# Altium integrated library Micron Memory Mobile LPDRAM.IntLib: 146 symbols (part 1 of 41)
Pins are listed as number, name and electrical type; pins without a type are passive.

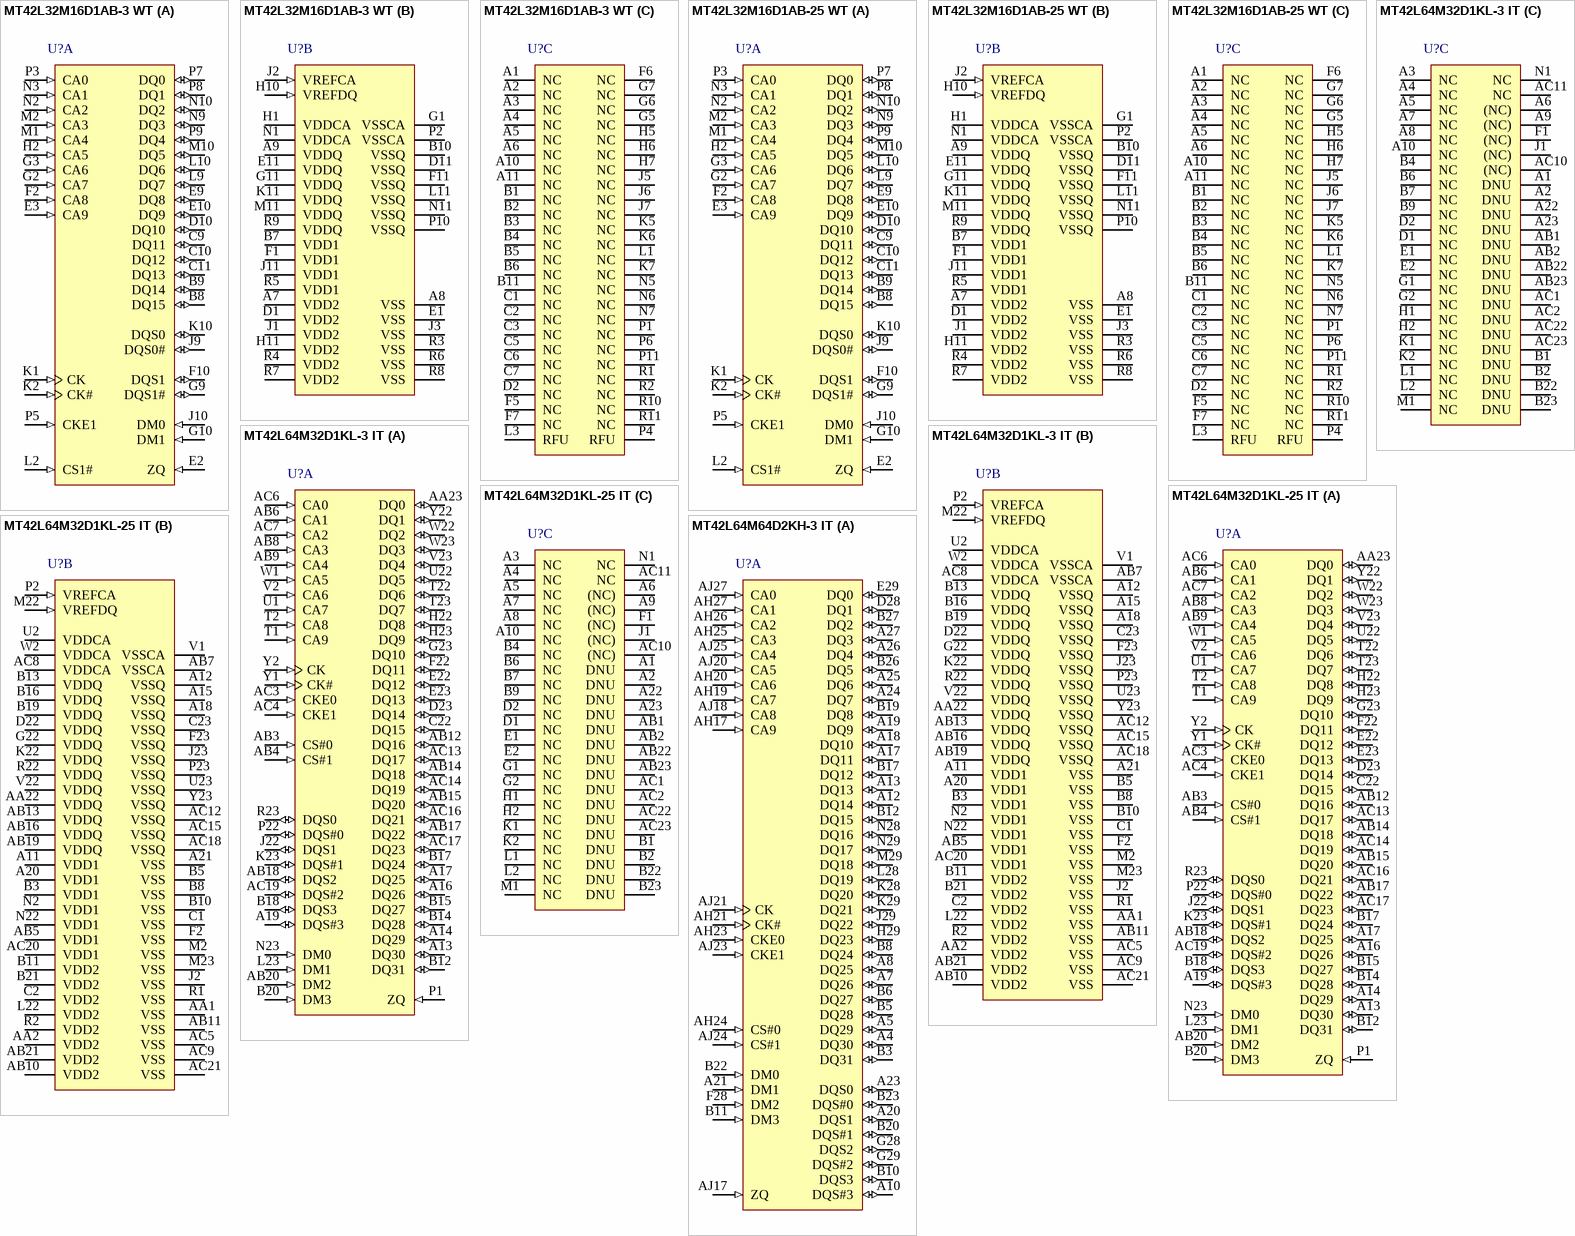
[diagram p0: symbols MT42L32M16D1AB-3 WT to MT42L64M64D2KH-3 IT]

## MT42L32M16D1AB-3 WT
designator U?
512Mb LPDDR2-667 SDRAM, 32Mb x 16, 3ns, 1.2V, -25 to 85 degC, 121-Ball VFBGA, Pb-Free; Manufacturer: Micron; PartNumber: MT42L32M16D1AB-3 WT; Clock Rate: 333 MHz; Op. Temp.: -25C to +85C; DatasheetVersion: Rev. H; PackageVersion: Rev.H; PackageReference: MICT-AB-121; PackageDescription: 121-Ball Fine-Pitch Ball Grid Array, 8 x 6.5 mm, Pitch 0.5 mm; Cycle Time: 3ns; Data Rate: LPDDR2-667; Density: 512Mb; Depth: 32Mb; Package: VFBGA; Part Status: Sampling; Pin Count: 121-ball; RoHS: Yes; Technology: Mobile LPDDR2; Voltage: 1.2V; Width: x16; Mounting Technology: Surface Mount; ComponentLink1Description: Manufacturer URL; ComponentLink1URL: http://www.micron.com/; ComponentLink2Description: Datasheet; ComponentLink2URL: http://www.micron.com/~/media/Documents/Products/Data%20Sheet/DRAM/Mobile%20DRAM/Low-Power%20DRAM/LPDDR2/U67M_512Mb_mobile_lpddr2_s4_sdram.pdf; ComponentLink3Description: Package Specification; ComponentLink3URL: http://www.micron.com/~/media/Documents/Products/Data%20Sheet/DRAM/Mobile%20DRAM/Low-Power%20DRAM/LPDDR2/U67M_512Mb_mobile_lpddr2_s4_sdram.pdf
footprint MICT-AB-121 (BGA, 121-Balls, Body 8x6.5mm, Pitch 0.5mm)
part A pins: B8 DQ15 (io) "Data input/output: Bidirectional data bus.", B9 DQ14 (io) "Data input/output: Bidirectional data bus.", C9 DQ11 (io) "Data input/output: Bidirectional data bus.", C10 DQ12 (io) "Data input/output: Bidirectional data bus.", C11 DQ13 (io) "Data input/output: Bidirectional data bus.", D10 DQ10 (io) "Data input/output: Bidirectional data bus.", E2 ZQ (in) "External impedance (240 ohm): This signal is used to calibrate the device output impedance.", E3 CA9 (in) "Command/address inputs: Provide the command and address inputs according to the command truth table.", E9 DQ8 (io) "Data input/output: Bidirectional data bus.", E10 DQ9 (io) "Data input/output: Bidirectional data bus.", F2 CA8 (in) "Command/address inputs: Provide the command and address inputs according to the command truth table.", F10 DQS1 (io) "Data strobe: The data strobe is bidirectional (used for read and write data) and complementary (DQS and DQS#). It is edge-aligned output with read data and centered input with write data. DQS[1:0]/DQS[1:0]# is DQS for each (See Datasheet)", G2 CA7 (in) "Command/address inputs: Provide the command and address inputs according to the command truth table.", G3 CA6 (in) "Command/address inputs: Provide the command and address inputs according to the command truth table.", G9 DQS1# (io) "Data strobe: The data strobe is bidirectional (used for read and write data) and complementary (DQS and DQS#). It is edge-aligned output with read data and centered input with write data. DQS[1:0]/DQS[1:0]# is DQS for each (See Datasheet)", G10 DM1 (in) "Input data mask: DM is an input mask signal for write data. Although DM balls are input-only, the DM loading is designed to match that of DQ and DQS balls. DM[1:0] is DM for each of the two data bytes, respectively.", H2 CA5 (in) "Command/address inputs: Provide the command and address inputs according to the command truth table.", J9 DQS0# (io) "Data strobe: The data strobe is bidirectional (used for read and write data) and complementary (DQS and DQS#). It is edge-aligned output with read data and centered input with write data. DQS[1:0]/DQS[1:0]# is DQS for each (See Datasheet)", J10 DM0 (in) "Input data mask: DM is an input mask signal for write data. Although DM balls are input-only, the DM loading is designed to match that of DQ and DQS balls. DM[1:0] is DM for each of the two data bytes, respectively.", K1 CK (in) "Clock: CK and CK# are differential clock inputs. All CA inputs are sampled on both rising and falling edges of CK. CS and CKE inputs are sampled at the rising edge of CK. AC timings are referenced to clock.", K2 CK# (in) "Clock: CK and CK# are differential clock inputs. All CA inputs are sampled on both rising and falling edges of CK. CS and CKE inputs are sampled at the rising edge of CK. AC timings are referenced to clock.", K10 DQS0 (io) "Data strobe: The data strobe is bidirectional (used for read and write data) and complementary (DQS and DQS#). It is edge-aligned output with read data and centered input with write data. DQS[1:0]/DQS[1:0]# is DQS for each (See Datasheet)", L2 CS1# (in) "Chip select: CS# is considered part of the command code and is sampled at the rising edge of CK.", L9 DQ7 (io) "Data input/output: Bidirectional data bus.", L10 DQ6 (io) "Data input/output: Bidirectional data bus.", M1 CA4 (in) "Command/address inputs: Provide the command and address inputs according to the command truth table.", M2 CA3 (in) "Command/address inputs: Provide the command and address inputs according to the command truth table.", M10 DQ5 (io) "Data input/output: Bidirectional data bus.", N2 CA2 (in) "Command/address inputs: Provide the command and address inputs according to the command truth table.", N3 CA1 (in) "Command/address inputs: Provide the command and address inputs according to the command truth table.", N9 DQ3 (io) "Data input/output: Bidirectional data bus.", N10 DQ2 (io) "Data input/output: Bidirectional data bus.", P3 CA0 (in) "Command/address inputs: Provide the command and address inputs according to the command truth table.", P5 CKE1 (in) "Clock enable: CKE HIGH activates and CKE LOW deactivates the internal clock signals, input buffers, and output drivers. Power-saving modes are entered and exited via CKE transitions. CKE is considered part of the command (See Datasheet)", P7 DQ0 (io) "Data input/output: Bidirectional data bus.", P8 DQ1 (io) "Data input/output: Bidirectional data bus.", P9 DQ4 (io) "Data input/output: Bidirectional data bus."
part B pins: A7 VDD2 (power) "Core power: Supply 2.", A8 VSS (power) "Common ground", A9 VDDQ (power) "DQ power supply: Isolated on the die for improved noise immunity.", B7 VDD1 (power) "Core power: Supply 1.", B10 VSSQ (power) "DQ ground: Isolated on the die for improved noise immunity.", D1 VDD2 (power) "Core power: Supply 2.", D11 VSSQ (power) "DQ ground: Isolated on the die for improved noise immunity.", E1 VSS (power) "Common ground", E11 VDDQ (power) "DQ power supply: Isolated on the die for improved noise immunity.", F1 VDD1 (power) "Core power: Supply 1.", F11 VSSQ (power) "DQ ground: Isolated on the die for improved noise immunity.", G1 VSSCA (power) "Command/address power supply: Command/address power supply.", G11 VDDQ (power) "DQ power supply: Isolated on the die for improved noise immunity.", H1 VDDCA (power) "Command/address power supply: Command/address power supply.", H10 VREFDQ (in) "Reference voltage:VREFDQ is reference for DQ input buffers.", H11 VDD2 (power) "Core power: Supply 2.", J1 VDD2 (power) "Core power: Supply 2.", J2 VREFCA (in) "Reference voltage: VREFCA is reference for command/address input buffers.", J3 VSS (power) "Common ground", J11 VDD1 (power) "Core power: Supply 1.", K11 VDDQ (power) "DQ power supply: Isolated on the die for improved noise immunity.", L11 VSSQ (power) "DQ ground: Isolated on the die for improved noise immunity.", M11 VDDQ (power) "DQ power supply: Isolated on the die for improved noise immunity.", N1 VDDCA (power) "Command/address power supply: Command/address power supply.", N11 VSSQ (power) "DQ ground: Isolated on the die for improved noise immunity.", P2 VSSCA (power) "Command/address ground: Isolated on the die for improved noise immunity.", P10 VSSQ (power) "DQ ground: Isolated on the die for improved noise immunity.", R3 VSS (power) "Common ground", R4 VDD2 (power) "Core power: Supply 2.", R5 VDD1 (power) "Core power: Supply 1.", R6 VSS (power) "Common ground", R7 VDD2 (power) "Core power: Supply 2.", R8 VSS (power) "Common ground", R9 VDDQ (power) "DQ power supply: Isolated on the die for improved noise immunity."
part C pins: A1 NC "No connect: Not internally connected.", A2 NC "No connect: Not internally connected.", A3 NC "No connect: Not internally connected.", A4 NC "No connect: Not internally connected.", A5 NC "No connect: Not internally connected.", A6 NC "No connect: Not internally connected.", A10 NC "No connect: Not internally connected.", A11 NC "No connect: Not internally connected.", B1 NC "No connect: Not internally connected.", B2 NC "No connect: Not internally connected.", B3 NC "No connect: Not internally connected.", B4 NC "No connect: Not internally connected.", B5 NC "No connect: Not internally connected.", B6 NC "No connect: Not internally connected.", B11 NC "No connect: Not internally connected.", C1 NC "No connect: Not internally connected.", C2 NC "No connect: Not internally connected.", C3 NC "No connect: Not internally connected.", C5 NC "No connect: Not internally connected.", C6 NC "No connect: Not internally connected.", C7 NC "No connect: Not internally connected.", D2 NC "No connect: Not internally connected.", F5 NC "No connect: Not internally connected.", F6 NC "No connect: Not internally connected.", F7 NC "No connect: Not internally connected.", G5 NC "No connect: Not internally connected.", G6 NC "No connect: Not internally connected.", G7 NC "No connect: Not internally connected.", H5 NC "No connect: Not internally connected.", H6 NC "No connect: Not internally connected.", H7 NC "No connect: Not internally connected.", J5 NC "No connect: Not internally connected.", J6 NC "No connect: Not internally connected.", J7 NC "No connect: Not internally connected.", K5 NC "No connect: Not internally connected.", K6 NC "No connect: Not internally connected.", K7 NC "No connect: Not internally connected.", L1 NC "No connect: Not internally connected.", L3 RFU, N5 NC "No connect: Not internally connected.", N6 NC "No connect: Not internally connected.", N7 NC "No connect: Not internally connected.", P1 NC "No connect: Not internally connected.", P4 RFU, P6 NC "No connect: Not internally connected.", P11 NC "No connect: Not internally connected.", R1 NC "No connect: Not internally connected.", R2 NC "No connect: Not internally connected.", R10 NC "No connect: Not internally connected.", R11 NC "No connect: Not internally connected."

## MT42L32M16D1AB-25 WT
designator U?
512Mb LPDDR2-800 SDRAM, 32Mb x 16, 2.5ns, 1.2V, -25 to 85 degC, 121-Ball VFBGA, Pb-Free; Manufacturer: Micron; PartNumber: MT42L32M16D1AB-25 WT; Clock Rate: 400 MHz; Op. Temp.: -25C to +85C; DatasheetVersion: Rev. H; PackageVersion: Rev.H; PackageReference: MICT-AB-121; PackageDescription: 121-Ball Fine-Pitch Ball Grid Array, 8 x 6.5 mm, Pitch 0.5 mm; Cycle Time: 2.5ns; Data Rate: LPDDR2-800; Density: 512Mb; Depth: 32Mb; Package: VFBGA; Part Status: Production; Pin Count: 121-ball; RoHS: Yes; Technology: Mobile LPDDR2; Voltage: 1.2V; Width: x16; Mounting Technology: Surface Mount; ComponentLink1Description: Manufacturer URL; ComponentLink1URL: http://www.micron.com/; ComponentLink2Description: Datasheet; ComponentLink2URL: http://www.micron.com/~/media/Documents/Products/Data%20Sheet/DRAM/Mobile%20DRAM/Low-Power%20DRAM/LPDDR2/U67M_512Mb_mobile_lpddr2_s4_sdram.pdf; ComponentLink3Description: Package Specification; ComponentLink3URL: http://www.micron.com/~/media/Documents/Products/Data%20Sheet/DRAM/Mobile%20DRAM/Low-Power%20DRAM/LPDDR2/U67M_512Mb_mobile_lpddr2_s4_sdram.pdf
footprint MICT-AB-121 (BGA, 121-Balls, Body 8x6.5mm, Pitch 0.5mm)
part A pins: B8 DQ15 (io) "Data input/output: Bidirectional data bus.", B9 DQ14 (io) "Data input/output: Bidirectional data bus.", C9 DQ11 (io) "Data input/output: Bidirectional data bus.", C10 DQ12 (io) "Data input/output: Bidirectional data bus.", C11 DQ13 (io) "Data input/output: Bidirectional data bus.", D10 DQ10 (io) "Data input/output: Bidirectional data bus.", E2 ZQ (in) "External impedance (240 ohm): This signal is used to calibrate the device output impedance.", E3 CA9 (in) "Command/address inputs: Provide the command and address inputs according to the command truth table.", E9 DQ8 (io) "Data input/output: Bidirectional data bus.", E10 DQ9 (io) "Data input/output: Bidirectional data bus.", F2 CA8 (in) "Command/address inputs: Provide the command and address inputs according to the command truth table.", F10 DQS1 (io) "Data strobe: The data strobe is bidirectional (used for read and write data) and complementary (DQS and DQS#). It is edge-aligned output with read data and centered input with write data. DQS[1:0]/DQS[1:0]# is DQS for each (See Datasheet)", G2 CA7 (in) "Command/address inputs: Provide the command and address inputs according to the command truth table.", G3 CA6 (in) "Command/address inputs: Provide the command and address inputs according to the command truth table.", G9 DQS1# (io) "Data strobe: The data strobe is bidirectional (used for read and write data) and complementary (DQS and DQS#). It is edge-aligned output with read data and centered input with write data. DQS[1:0]/DQS[1:0]# is DQS for each (See Datasheet)", G10 DM1 (in) "Input data mask: DM is an input mask signal for write data. Although DM balls are input-only, the DM loading is designed to match that of DQ and DQS balls. DM[1:0] is DM for each of the two data bytes, respectively.", H2 CA5 (in) "Command/address inputs: Provide the command and address inputs according to the command truth table.", J9 DQS0# (io) "Data strobe: The data strobe is bidirectional (used for read and write data) and complementary (DQS and DQS#). It is edge-aligned output with read data and centered input with write data. DQS[1:0]/DQS[1:0]# is DQS for each (See Datasheet)", J10 DM0 (in) "Input data mask: DM is an input mask signal for write data. Although DM balls are input-only, the DM loading is designed to match that of DQ and DQS balls. DM[1:0] is DM for each of the two data bytes, respectively.", K1 CK (in) "Clock: CK and CK# are differential clock inputs. All CA inputs are sampled on both rising and falling edges of CK. CS and CKE inputs are sampled at the rising edge of CK. AC timings are referenced to clock.", K2 CK# (in) "Clock: CK and CK# are differential clock inputs. All CA inputs are sampled on both rising and falling edges of CK. CS and CKE inputs are sampled at the rising edge of CK. AC timings are referenced to clock.", K10 DQS0 (io) "Data strobe: The data strobe is bidirectional (used for read and write data) and complementary (DQS and DQS#). It is edge-aligned output with read data and centered input with write data. DQS[1:0]/DQS[1:0]# is DQS for each (See Datasheet)", L2 CS1# (in) "Chip select: CS# is considered part of the command code and is sampled at the rising edge of CK.", L9 DQ7 (io) "Data input/output: Bidirectional data bus.", L10 DQ6 (io) "Data input/output: Bidirectional data bus.", M1 CA4 (in) "Command/address inputs: Provide the command and address inputs according to the command truth table.", M2 CA3 (in) "Command/address inputs: Provide the command and address inputs according to the command truth table.", M10 DQ5 (io) "Data input/output: Bidirectional data bus.", N2 CA2 (in) "Command/address inputs: Provide the command and address inputs according to the command truth table.", N3 CA1 (in) "Command/address inputs: Provide the command and address inputs according to the command truth table.", N9 DQ3 (io) "Data input/output: Bidirectional data bus.", N10 DQ2 (io) "Data input/output: Bidirectional data bus.", P3 CA0 (in) "Command/address inputs: Provide the command and address inputs according to the command truth table.", P5 CKE1 (in) "Clock enable: CKE HIGH activates and CKE LOW deactivates the internal clock signals, input buffers, and output drivers. Power-saving modes are entered and exited via CKE transitions. CKE is considered part of the command (See Datasheet)", P7 DQ0 (io) "Data input/output: Bidirectional data bus.", P8 DQ1 (io) "Data input/output: Bidirectional data bus.", P9 DQ4 (io) "Data input/output: Bidirectional data bus."
part B pins: A7 VDD2 (power) "Core power: Supply 2.", A8 VSS (power) "Common ground", A9 VDDQ (power) "DQ power supply: Isolated on the die for improved noise immunity.", B7 VDD1 (power) "Core power: Supply 1.", B10 VSSQ (power) "DQ ground: Isolated on the die for improved noise immunity.", D1 VDD2 (power) "Core power: Supply 2.", D11 VSSQ (power) "DQ ground: Isolated on the die for improved noise immunity.", E1 VSS (power) "Common ground", E11 VDDQ (power) "DQ power supply: Isolated on the die for improved noise immunity.", F1 VDD1 (power) "Core power: Supply 1.", F11 VSSQ (power) "DQ ground: Isolated on the die for improved noise immunity.", G1 VSSCA (power) "Command/address power supply: Command/address power supply.", G11 VDDQ (power) "DQ power supply: Isolated on the die for improved noise immunity.", H1 VDDCA (power) "Command/address power supply: Command/address power supply.", H10 VREFDQ (in) "Reference voltage:VREFDQ is reference for DQ input buffers.", H11 VDD2 (power) "Core power: Supply 2.", J1 VDD2 (power) "Core power: Supply 2.", J2 VREFCA (in) "Reference voltage: VREFCA is reference for command/address input buffers.", J3 VSS (power) "Common ground", J11 VDD1 (power) "Core power: Supply 1.", K11 VDDQ (power) "DQ power supply: Isolated on the die for improved noise immunity.", L11 VSSQ (power) "DQ ground: Isolated on the die for improved noise immunity.", M11 VDDQ (power) "DQ power supply: Isolated on the die for improved noise immunity.", N1 VDDCA (power) "Command/address power supply: Command/address power supply.", N11 VSSQ (power) "DQ ground: Isolated on the die for improved noise immunity.", P2 VSSCA (power) "Command/address ground: Isolated on the die for improved noise immunity.", P10 VSSQ (power) "DQ ground: Isolated on the die for improved noise immunity.", R3 VSS (power) "Common ground", R4 VDD2 (power) "Core power: Supply 2.", R5 VDD1 (power) "Core power: Supply 1.", R6 VSS (power) "Common ground", R7 VDD2 (power) "Core power: Supply 2.", R8 VSS (power) "Common ground", R9 VDDQ (power) "DQ power supply: Isolated on the die for improved noise immunity."
part C pins: A1 NC "No connect: Not internally connected.", A2 NC "No connect: Not internally connected.", A3 NC "No connect: Not internally connected.", A4 NC "No connect: Not internally connected.", A5 NC "No connect: Not internally connected.", A6 NC "No connect: Not internally connected.", A10 NC "No connect: Not internally connected.", A11 NC "No connect: Not internally connected.", B1 NC "No connect: Not internally connected.", B2 NC "No connect: Not internally connected.", B3 NC "No connect: Not internally connected.", B4 NC "No connect: Not internally connected.", B5 NC "No connect: Not internally connected.", B6 NC "No connect: Not internally connected.", B11 NC "No connect: Not internally connected.", C1 NC "No connect: Not internally connected.", C2 NC "No connect: Not internally connected.", C3 NC "No connect: Not internally connected.", C5 NC "No connect: Not internally connected.", C6 NC "No connect: Not internally connected.", C7 NC "No connect: Not internally connected.", D2 NC "No connect: Not internally connected.", F5 NC "No connect: Not internally connected.", F6 NC "No connect: Not internally connected.", F7 NC "No connect: Not internally connected.", G5 NC "No connect: Not internally connected.", G6 NC "No connect: Not internally connected.", G7 NC "No connect: Not internally connected.", H5 NC "No connect: Not internally connected.", H6 NC "No connect: Not internally connected.", H7 NC "No connect: Not internally connected.", J5 NC "No connect: Not internally connected.", J6 NC "No connect: Not internally connected.", J7 NC "No connect: Not internally connected.", K5 NC "No connect: Not internally connected.", K6 NC "No connect: Not internally connected.", K7 NC "No connect: Not internally connected.", L1 NC "No connect: Not internally connected.", L3 RFU, N5 NC "No connect: Not internally connected.", N6 NC "No connect: Not internally connected.", N7 NC "No connect: Not internally connected.", P1 NC "No connect: Not internally connected.", P4 RFU, P6 NC "No connect: Not internally connected.", P11 NC "No connect: Not internally connected.", R1 NC "No connect: Not internally connected.", R2 NC "No connect: Not internally connected.", R10 NC "No connect: Not internally connected.", R11 NC "No connect: Not internally connected."

## MT42L64M32D1KL-3 IT
designator U?
2Gb LPDDR2-667 SDRAM, 64Mb x 32, 3ns, 1.2V, -25 to 85 degC, 168-Pin POP, Pb-Free; Manufacturer: Micron; PartNumber: MT42L64M32D1KL-3 IT; Clock Rate: 333 MHz; Op. Temp.: -25C to +85C; DatasheetVersion: Rev.N; PackageReference: MICT-KL-168; PackageDescription: 168-Ball POP, 12 x 12 mm, Pitch 0.5 mm; Cycle Time: 3ns; Data Rate: LPDDR2-667; Density: 2Gb; Depth: 64Mb; Package: POP; Part Status: Production; Pin Count: 168-ball; RoHS: Yes; Technology: Mobile LPDDR2; Voltage: 1.2V; Width: x32; Mounting Technology: Surface Mount; ComponentLink1Description: Manufacturer URL; ComponentLink1URL: http://www.micron.com/; ComponentLink2Description: Datasheet; ComponentLink2URL: http://www.micron.com/~/media/Documents/Products/Data%20Sheet/DRAM/Mobile%20DRAM/Low-Power%20DRAM/LPDDR2/G69A_2Gb_mobile_lpddr2_s4_sdram.pdf; ComponentLink3Description: Package Specification; ComponentLink3URL: http://www.micron.com/~/media/Documents/Products/Data%20Sheet/DRAM/Mobile%20DRAM/Low-Power%20DRAM/LPDDR2/G69A_2Gb_mobile_lpddr2_s4_sdram.pdf
footprint MICT-KL-168 (BGA, 168-Balls, Body 12x12mm, Pitch 0.5mm)
part A pins: A13 DQ30 (io) "Data input/output: Bidirectional data bus.", A14 DQ29 (io) "Data input/output: Bidirectional data bus.", A16 DQ26 (io) "Data input/output: Bidirectional data bus.", A17 DQ25 (io) "Data input/output: Bidirectional data bus.", A19 DQS#3 (io) "Data strobe: The data strobe is bidirectional (used for read and write data) and complementary (DQS and DQS#). It is edge-aligned output with read data and centered input with write data. DQS[3:0]/DQS[3:0]# is DQS for each (See Datasheet)", AA23 DQ0 (io) "Data input/output: Bidirectional data bus.", AB3 CS#0 (in) "Chip select: CS# is considered part of the command code and is sampled at the rising edge of CK.", AB4 CS#1 (in) "Chip select: CS# is considered part of the command code and is sampled at the rising edge of CK.", AB6 CA1 (in) "Command/address inputs: Provide the command and address inputs according to the command truth table.", AB8 CA3 (in) "Command/address inputs: Provide the command and address inputs according to the command truth table.", AB9 CA4 (in) "Command/address inputs: Provide the command and address inputs according to the command truth table.", AB12 DQ16 (io) "Data input/output: Bidirectional data bus.", AB14 DQ18 (io) "Data input/output: Bidirectional data bus.", AB15 DQ20 (io) "Data input/output: Bidirectional data bus.", AB17 DQ22 (io) "Data input/output: Bidirectional data bus.", AB18 DQS2 (io) "Data strobe: The data strobe is bidirectional (used for read and write data) and complementary (DQS and DQS#). It is edge-aligned output with read data and centered input with write data. DQS[3:0]/DQS[3:0]# is DQS for each (See Datasheet)", AB20 DM2 (in) "Input data mask: DM is an input mask signal for write data. Although DM balls are input-only, the DM loading is designed to match that of DQ and DQS balls. DM[3:0] is DM for each of the four data bytes, respectively.", AC3 CKE0 (in) "Clock enable: CKE HIGH activates and CKE LOW deactivates the internal clock signals, input buffers, and output drivers. Power-saving modes are entered and exited via CKE transitions. CKE is considered part of the command (See Datasheet)", AC4 CKE1 (in) "Clock enable: CKE HIGH activates and CKE LOW deactivates the internal clock signals, input buffers, and output drivers. Power-saving modes are entered and exited via CKE transitions. CKE is considered part of the command (See Datasheet)", AC6 CA0 (in) "Command/address inputs: Provide the command and address inputs according to the command truth table.", AC7 CA2 (in) "Command/address inputs: Provide the command and address inputs according to the command truth table.", AC13 DQ17 (io) "Data input/output: Bidirectional data bus.", AC14 DQ19 (io) "Data input/output: Bidirectional data bus.", AC16 DQ21 (io) "Data input/output: Bidirectional data bus.", AC17 DQ23 (io) "Data input/output: Bidirectional data bus.", AC19 DQS#2 (io) "Data strobe: The data strobe is bidirectional (used for read and write data) and complementary (DQS and DQS#). It is edge-aligned output with read data and centered input with write data. DQS[3:0]/DQS[3:0]# is DQS for each (See Datasheet)", B12 DQ31 (io) "Data input/output: Bidirectional data bus.", B14 DQ28 (io) "Data input/output: Bidirectional data bus.", B15 DQ27 (io) "Data input/output: Bidirectional data bus.", B17 DQ24 (io) "Data input/output: Bidirectional data bus.", B18 DQS3 (io) "Data strobe: The data strobe is bidirectional (used for read and write data) and complementary (DQS and DQS#). It is edge-aligned output with read data and centered input with write data. DQS[3:0]/DQS[3:0]# is DQS for each (See Datasheet)", B20 DM3 (in) "Input data mask: DM is an input mask signal for write data. Although DM balls are input-only, the DM loading is designed to match that of DQ and DQS balls. DM[3:0] is DM for each of the four data bytes, respectively.", C22 DQ15 (io) "Data input/output: Bidirectional data bus.", D23 DQ14 (io) "Data input/output: Bidirectional data bus.", E22 DQ12 (io) "Data input/output: Bidirectional data bus.", E23 DQ13 (io) "Data input/output: Bidirectional data bus.", F22 DQ11 (io) "Data input/output: Bidirectional data bus.", G23 DQ10 (io) "Data input/output: Bidirectional data bus.", H22 DQ8 (io) "Data input/output: Bidirectional data bus.", H23 DQ9 (io) "Data input/output: Bidirectional data bus.", J22 DQS1 (io) "Data strobe: The data strobe is bidirectional (used for read and write data) and complementary (DQS and DQS#). It is edge-aligned output with read data and centered input with write data. DQS[3:0]/DQS[3:0]# is DQS for each (See Datasheet)", K23 DQS#1 (io) "Data strobe: The data strobe is bidirectional (used for read and write data) and complementary (DQS and DQS#). It is edge-aligned output with read data and centered input with write data. DQS[3:0]/DQS[3:0]# is DQS for each (See Datasheet)", L23 DM1 (in) "Input data mask: DM is an input mask signal for write data. Although DM balls are input-only, the DM loading is designed to match that of DQ and DQS balls. DM[3:0] is DM for each of the four data bytes, respectively.", N23 DM0 (in) "Input data mask: DM is an input mask signal for write data. Although DM balls are input-only, the DM loading is designed to match that of DQ and DQS balls. DM[3:0] is DM for each of the four data bytes, respectively.", P1 ZQ (in) "External impedance (240 ohm): This signal is used to calibrate the device output impedance for S4 devices. For S2 devices, ZQ should be tied to VDDCA.", P22 DQS#0 (io) "Data strobe: The data strobe is bidirectional (used for read and write data) and complementary (DQS and DQS#). It is edge-aligned output with read data and centered input with write data. DQS[3:0]/DQS[3:0]# is DQS for each (See Datasheet)", R23 DQS0 (io) "Data strobe: The data strobe is bidirectional (used for read and write data) and complementary (DQS and DQS#). It is edge-aligned output with read data and centered input with write data. DQS[3:0]/DQS[3:0]# is DQS for each (See Datasheet)", T1 CA9 (in) "Command/address inputs: Provide the command and address inputs according to the command truth table.", T2 CA8 (in) "Command/address inputs: Provide the command and address inputs according to the command truth table.", T22 DQ6 (io) "Data input/output: Bidirectional data bus.", T23 DQ7 (io) "Data input/output: Bidirectional data bus.", U1 CA7 (in) "Command/address inputs: Provide the command and address inputs according to the command truth table.", U22 DQ5 (io) "Data input/output: Bidirectional data bus.", V2 CA6 (in) "Command/address inputs: Provide the command and address inputs according to the command truth table.", V23 DQ4 (io) "Data input/output: Bidirectional data bus.", W1 CA5 (in) "Command/address inputs: Provide the command and address inputs according to the command truth table.", W22 DQ2 (io) "Data input/output: Bidirectional data bus.", W23 DQ3 (io) "Data input/output: Bidirectional data bus.", Y1 CK# (in) "Clock: CK and CK# are differential clock inputs. All CA inputs are sampled on both rising and falling edges of CK. CS and CKE inputs are sampled at the rising edge of CK. AC timings are referenced to clock.", Y2 CK (in) "Clock: CK and CK# are differential clock inputs. All CA inputs are sampled on both rising and falling edges of CK. CS and CKE inputs are sampled at the rising edge of CK. AC timings are referenced to clock.", Y22 DQ1 (io) "Data input/output: Bidirectional data bus."
part B pins: A11 VDD1 (power) "Core power: Supply 1.", A12 VSSQ (power) "DQ ground: Isolated on the die for improved noise immunity.", A15 VSSQ (power) "DQ ground: Isolated on the die for improved noise immunity.", A18 VSSQ (power) "DQ ground: Isolated on the die for improved noise immunity.", A20 VDD1 (power) "Core power: Supply 1.", A21 VSS (power) "Common ground", AA1 VSS (power) "Common ground", AA2 VDD2 (power) "Core power: Supply 2.", AA22 VDDQ (power) "DQ power supply: Isolated on the die for improved noise immunity.", AB5 VDD1 (power) "Core power: Supply 1.", AB7 VSSCA (power) "Command/address ground: Isolated on the die for improved noise immunity.", AB10 VDD2 (power) "Core power: Supply 2.", AB11 VSS (power) "Common ground", AB13 VDDQ (power) "DQ power supply: Isolated on the die for improved noise immunity.", AB16 VDDQ (power) "DQ power supply: Isolated on the die for improved noise immunity.", AB19 VDDQ (power) "DQ power supply: Isolated on the die for improved noise immunity.", AB21 VDD2 (power) "Core power: Supply 2.", AC5 VSS (power) "Common ground", AC8 VDDCA (power) "Command/address power supply: Command/address power supply.", AC9 VSS (power) "Common ground", AC12 VSSQ (power) "DQ ground: Isolated on the die for improved noise immunity.", AC15 VSSQ (power) "DQ ground: Isolated on the die for improved noise immunity.", AC18 VSSQ (power) "DQ ground: Isolated on the die for improved noise immunity.", AC20 VDD1 (power) "Core power: Supply 1.", AC21 VSS (power) "Common ground", B3 VDD1 (power) "Core power: Supply 1.", B5 VSS (power) "Common ground", B8 VSS (power) "Common ground", B10 VSS (power) "Common ground", B11 VDD2 (power) "Core power: Supply 2.", B13 VDDQ (power) "DQ power supply: Isolated on the die for improved noise immunity.", B16 VDDQ (power) "DQ power supply: Isolated on the die for improved noise immunity.", B19 VDDQ (power) "DQ power supply: Isolated on the die for improved noise immunity.", B21 VDD2 (power) "Core power: Supply 2.", C1 VSS (power) "Common ground", C2 VDD2 (power) "Core power: Supply 2.", C23 VSSQ (power) "DQ ground: Isolated on the die for improved noise immunity.", D22 VDDQ (power) "DQ power supply: Isolated on the die for improved noise immunity.", F2 VSS (power) "Common ground", F23 VSSQ (power) "DQ ground: Isolated on the die for improved noise immunity.", G22 VDDQ (power) "DQ power supply: Isolated on the die for improved noise immunity.", J2 VSS (power) "Common ground", J23 VSSQ (power) "DQ ground: Isolated on the die for improved noise immunity.", K22 VDDQ (power) "DQ power supply: Isolated on the die for improved noise immunity.", L22 VDD2 (power) "Core power: Supply 2.", M2 VSS (power) "Common ground", M22 VREFDQ (in) "Reference voltage: VREFCA is reference for command/address input buffers, VREFDQ is reference for DQ input buffers.", M23 VSS (power) "Common ground", N2 VDD1 (power) "Core power: Supply 1.", N22 VDD1 (power) "Core power: Supply 1.", P2 VREFCA (in) "Reference voltage: VREFCA is reference for command/address input buffers, VREFDQ is reference for DQ input buffers.", P23 VSSQ (power) "DQ ground: Isolated on the die for improved noise immunity.", R1 VSS (power) "Common ground", R2 VDD2 (power) "Core power: Supply 2.", R22 VDDQ (power) "DQ power supply: Isolated on the die for improved noise immunity.", U2 VDDCA (power) "Command/address power supply: Command/address power supply.", U23 VSSQ (power) "DQ ground: Isolated on the die for improved noise immunity.", V1 VSSCA (power) "Command/address ground: Isolated on the die for improved noise immunity.", V22 VDDQ (power) "DQ power supply: Isolated on the die for improved noise immunity.", W2 VDDCA (power) "Command/address power supply: Command/address power supply.", Y23 VSSQ (power) "DQ ground: Isolated on the die for improved noise immunity."
part C pins: A1 DNU "Do not use: Must be grounded or left floating.", A2 DNU "Do not use: Must be grounded or left floating.", A3 NC "No connect: Not internally connected.", A4 NC "No connect: Not internally connected.", A5 NC "No connect: Not internally connected.", A6 (NC) "No connect: Balls indicated as (NC) are no connects, however, they could be connected together internally.", A7 NC "No connect: Not internally connected.", A8 NC "No connect: Not internally connected.", A9 (NC) "No connect: Balls indicated as (NC) are no connects, however, they could be connected together internally.", A10 NC "No connect: Not internally connected.", A22 DNU "Do not use: Must be grounded or left floating.", A23 DNU "Do not use: Must be grounded or left floating.", AB1 DNU "Do not use: Must be grounded or left floating.", AB2 DNU "Do not use: Must be grounded or left floating.", AB22 DNU "Do not use: Must be grounded or left floating.", AB23 DNU "Do not use: Must be grounded or left floating.", AC1 DNU "Do not use: Must be grounded or left floating.", AC2 DNU "Do not use: Must be grounded or left floating.", AC10 (NC) "No connect: Balls indicated as (NC) are no connects, however, they could be connected together internally.", AC11 NC "No connect: Not internally connected.", AC22 DNU "Do not use: Must be grounded or left floating.", AC23 DNU "Do not use: Must be grounded or left floating.", B1 DNU "Do not use: Must be grounded or left floating.", B2 DNU "Do not use: Must be grounded or left floating.", B4 NC "No connect: Not internally connected.", B6 NC "No connect: Not internally connected.", B7 NC "No connect: Not internally connected.", B9 NC "No connect: Not internally connected.", B22 DNU "Do not use: Must be grounded or left floating.", B23 DNU "Do not use: Must be grounded or left floating.", D1 NC "No connect: Not internally connected.", D2 NC "No connect: Not internally connected.", E1 NC "No connect: Not internally connected.", E2 NC "No connect: Not internally connected.", F1 (NC) "No connect: Balls indicated as (NC) are no connects, however, they could be connected together internally.", G1 NC "No connect: Not internally connected.", G2 NC "No connect: Not internally connected.", H1 NC "No connect: Not internally connected.", H2 NC "No connect: Not internally connected.", J1 (NC) "No connect: Balls indicated as (NC) are no connects, however, they could be connected together internally.", K1 NC "No connect: Not internally connected.", K2 NC "No connect: Not internally connected.", L1 NC "No connect: Not internally connected.", L2 NC "No connect: Not internally connected.", M1 NC "No connect: Not internally connected.", N1 NC "No connect: Not internally connected."